# EAGLE library part BEMICROCV_SHIELD_39 (library kmod-testing)
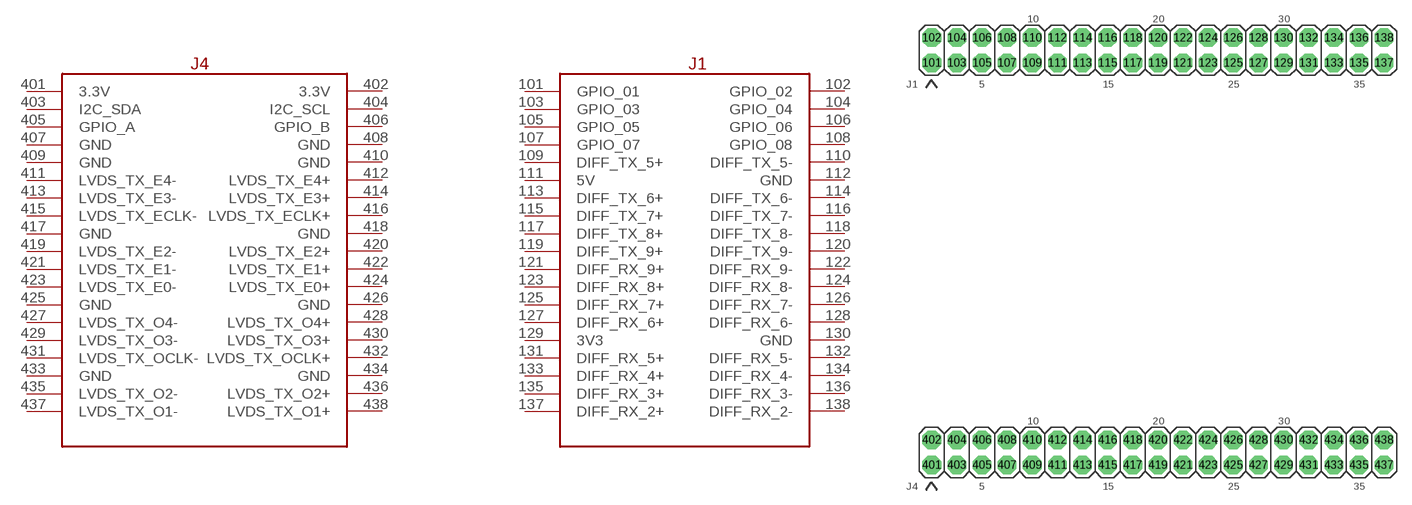
[diagram p20: symbol with the pads of BEMICROCV_SHIELD_39; footprint BEMICROCV_SHIELD_39]

Designator prefix -

## BEMICROCV_SHIELD_39  [BEMICROCV_SHIELD_39]
101  GPIO_01
102  GPIO_02
103  GPIO_03
104  GPIO_04
105  GPIO_05
106  GPIO_06
107  GPIO_07
108  GPIO_08
109  DIFF_TX_5+
110  DIFF_TX_5-
111  5V
112  GND
113  DIFF_TX_6+
114  DIFF_TX_6-
115  DIFF_TX_7+
116  DIFF_TX_7-
117  DIFF_TX_8+
118  DIFF_TX_8-
119  DIFF_TX_9+
120  DIFF_TX_9-
121  DIFF_RX_9+
122  DIFF_RX_9-
123  DIFF_RX_8+
124  DIFF_RX_8-
125  DIFF_RX_7+
126  DIFF_RX_7-
127  DIFF_RX_6+
128  DIFF_RX_6-
129  3V3
130  GND
131  DIFF_RX_5+
132  DIFF_RX_5-
133  DIFF_RX_4+
134  DIFF_RX_4-
135  DIFF_RX_3+
136  DIFF_RX_3-
137  DIFF_RX_2+
138  DIFF_RX_2-
401  3.3V
402  3.3V
403  I2C_SDA
404  I2C_SCL
405  GPIO_A
406  GPIO_B
407  GND
408  GND
409  GND
410  GND
411  LVDS_TX_E4-
412  LVDS_TX_E4+
413  LVDS_TX_E3-
414  LVDS_TX_E3+
415  LVDS_TX_ECLK-
416  LVDS_TX_ECLK+
417  GND
418  GND
419  LVDS_TX_E2-
420  LVDS_TX_E2+
421  LVDS_TX_E1-
422  LVDS_TX_E1+
423  LVDS_TX_E0-
424  LVDS_TX_E0+
425  GND
426  GND
427  LVDS_TX_O4-
428  LVDS_TX_O4+
429  LVDS_TX_O3-
430  LVDS_TX_O3+
431  LVDS_TX_OCLK-
432  LVDS_TX_OCLK+
433  GND
434  GND
435  LVDS_TX_O2-
436  LVDS_TX_O2+
437  LVDS_TX_O1-
438  LVDS_TX_O1+

## Footprint BEMICROCV_SHIELD_39 (pad centres in mm)
drill 1.016 pad 1.88 octagon: 101 -21.59,19.55; 102 -21.59,22.09; 103 -19.05,19.55; 104 -19.05,22.09; 105 -16.51,19.55; 106 -16.51,22.09; 107 -13.97,19.55; 108 -13.97,22.09; 109 -11.43,19.55; 110 -11.43,22.09; 111 -8.89,19.55; 112 -8.89,22.09; 113 -6.35,19.55; 114 -6.35,22.09; 115 -3.81,19.55; 116 -3.81,22.09; 117 -1.27,19.55; 118 -1.27,22.09; 119 1.27,19.55; 120 1.27,22.09; 121 3.81,19.55; 122 3.81,22.09; 123 6.35,19.55; 124 6.35,22.09; 125 8.89,19.55; 126 8.89,22.09; 127 11.43,19.55; 128 11.43,22.09; 129 13.97,19.55; 130 13.97,22.09; 131 16.51,19.55; 132 16.51,22.09; 133 19.05,19.55; 134 19.05,22.09; 135 21.59,19.55; 136 21.59,22.09; 137 24.13,19.55; 138 24.13,22.09; 401 -21.59,-21.09; 402 -21.59,-18.55; 403 -19.05,-21.09; 404 -19.05,-18.55; 405 -16.51,-21.09; 406 -16.51,-18.55; 407 -13.97,-21.09; 408 -13.97,-18.55; 409 -11.43,-21.09; 410 -11.43,-18.55; 411 -8.89,-21.09; 412 -8.89,-18.55; 413 -6.35,-21.09; 414 -6.35,-18.55; 415 -3.81,-21.09; 416 -3.81,-18.55; 417 -1.27,-21.09; 418 -1.27,-18.55; 419 1.27,-21.09; 420 1.27,-18.55; 421 3.81,-21.09; 422 3.81,-18.55; 423 6.35,-21.09; 424 6.35,-18.55; 425 8.89,-21.09; 426 8.89,-18.55; 427 11.43,-21.09; 428 11.43,-18.55; 429 13.97,-21.09; 430 13.97,-18.55; 431 16.51,-21.09; 432 16.51,-18.55; 433 19.05,-21.09; 434 19.05,-18.55; 435 21.59,-21.09; 436 21.59,-18.55; 437 24.13,-21.09; 438 24.13,-18.55